# EAGLE library part LTC3129EMSE-1 (library Birdhouse)
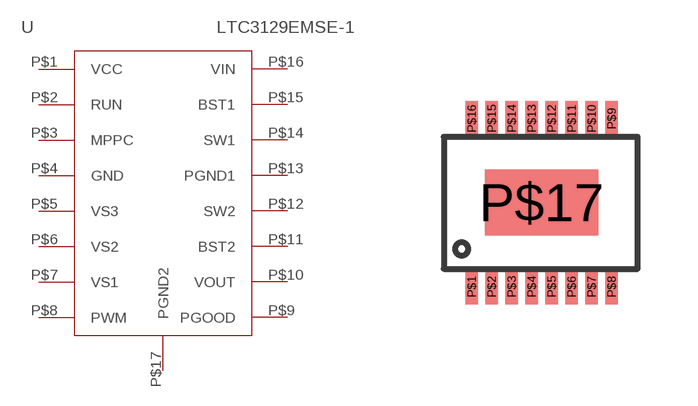
[diagram p2: symbol with the pads of LTC3129EMSE-1; footprint LTC3129EMSE-1]

Designator prefix U

## LTC3129EMSE-1  [LTC3129EMSE-1]
P$1  VCC
P$2  RUN
P$3  MPPC
P$4  GND
P$5  VS3
P$6  VS2
P$7  VS1
P$8  PWM
P$9  PGOOD
P$10  VOUT
P$11  BST2
P$12  SW2
P$13  PGND1
P$14  SW1
P$15  BST1
P$16  VIN
P$17  PGND2

## Footprint LTC3129EMSE-1 (pad centres in mm)
smd 0.305 x 0.889: P$1 0,0; P$2 0.5,0; P$3 1,0; P$4 1.5,0; P$5 2,0; P$6 2.5,0; P$7 3,0; P$8 3.5,0; P$9 3.5,4.209; P$10 3,4.209; P$11 2.5,4.209; P$12 2,4.209; P$13 1.5,4.209; P$14 1,4.209; P$15 0.5,4.209; P$16 0,4.209
smd 2.845 x 1.651: P$17 1.75,2.104